# Altium schematic symbol library DSOBoard.SchLib: 1 symbol
Pins are listed as number, name and electrical type; pins without a type are passive.

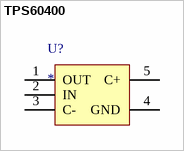
[diagram p0: symbol TPS60400]

## TPS60400
designator U?
footprint SOT26-5
pins: 1 OUT, 2 IN, 3 C-, 4 GND, 5 C+